# EAGLE library part PIN1X6_254 (library Pinheader)
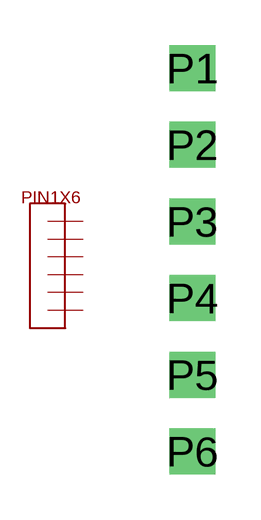
[diagram p3: symbol with the pads of PIN1X6_254; footprint PIN1X6_254]

Designator prefix -

## PIN1X6_254  [PIN1X6_254]
P1  P1
P2  P2
P3  P3
P4  P4
P5  P5
P6  P6

## Footprint PIN1X6_254 (pad centres in mm)
drill 1.016 square: P1 0,5.08; P2 0,2.54; P3 0,0; P4 0,-2.54; P5 0,-5.08; P6 0,-7.62